# Altium integrated library PC817X2NIP0F.IntLib: 1 symbol
Pins are listed as number, name and electrical type; pins without a type are passive.

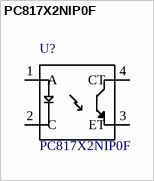
[diagram p0: symbol PC817X2NIP0F]

## PC817X2NIP0F
designator U?
Optocoupler DC-IN 1-CH Transistor DC-OUT 4-Pin PDIP SMD; MF: Sharp Microelectronics; SnapEDA_Link: https://www.snapeda.com/parts/PC817X2NIP0F/Sharp%20Microelectronics/view-part/?ref=snap; Availability: Unavailable; Price: None; MP: PC817X2NIP0F; Package: SMD-4 Sharp; Value: *
footprint SOT254P975X400-4N
pins: 1 A, 2 C, 3 ET, 4 CT